# Altium footprint library BMP280_Purple.PcbLib: 1 footprints
Each footprint in its own frame and in the unit in brackets; x right, y up, seen from the top. Pads: shape width x height; smd on the part's side, far side on the other; paste and mask are expansions set on the pad; w line width, h text height; cw(c..) or ccw(c..) is an arc to the next point about the centre after c.
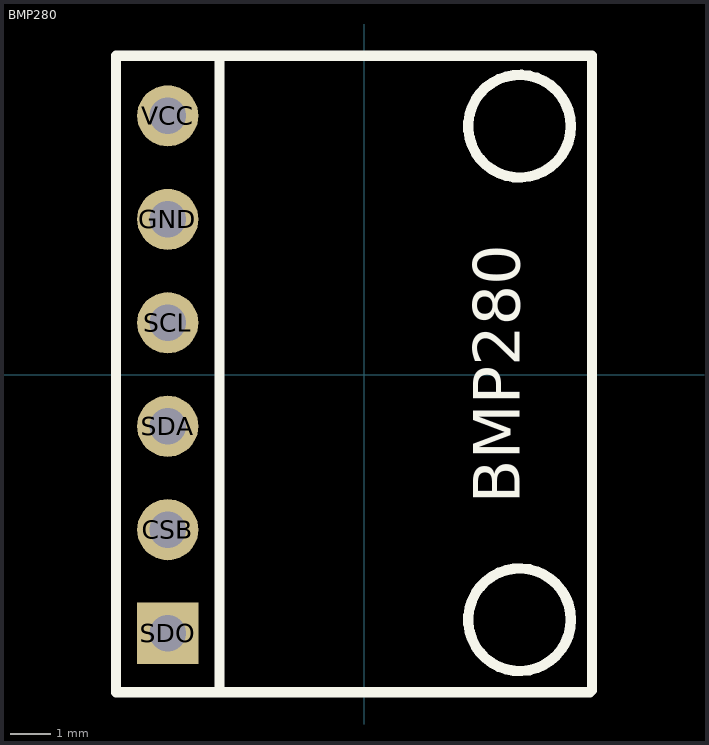
[diagram p0: the footprint, top view; thin cyan lines are the x and y axes]

## BMP280 [mm] "BMP280 Pressure- and Temperaturesensor. Purple Board."
pads (6):
  round 1.5 hole 0.9: CSB(-4.826,-3.81) GND(-4.826,3.81) SCL(-4.826,1.27) SDA(-4.826,-1.27) VCC(-4.826,6.35)
  rect 1.5x1.5 hole 0.9: SDO(-4.826,-6.35)
Top Overlay:
  circle w0.254: c3.81,-6.02 r1.26
  circle w0.254: c3.81,6.096 r1.26
  lines w0.2: -6.096,-7.62 -6.096,7.62
  lines w0.254: -6.096,-7.798 5.537,-7.798 ; -6.096,-7.747 -6.096,7.823 5.537,7.823 ; -3.556,-7.747 -3.556,7.747 ; 5.588,-7.747 5.588,7.823
  text "BMP280" at 3.81,-3.175 h1.14
3D body: height 0.89, standoff 0, extent 0.784,-0.889 2.054,0.635
3D body: height 0.64, standoff 0, extent -2.328,3.366 -0.931,4.001
3D body: height 0.64, standoff 0, extent -2.328,1.588 -0.931,2.223
3D body: height 0.64, standoff 0, extent -2.328,-0.19 -0.931,0.445
3D body: height 0.64, standoff 0, extent -2.328,-2.095 -0.931,-1.46
3D body: height 0.64, standoff 0, extent -2.328,-4 -0.931,-3.365
3D body: height 0.64, standoff 0, extent 4.276,-0.825 4.911,0.572